# Altium schematic symbol library 2019-05-08_18-30-42.SchLib: 2 symbols
Pins are listed as number, name and electrical type; pins without a type are passive.

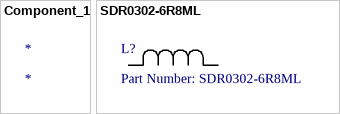
[diagram p0: symbols Component_1 to SDR0302-6R8ML]

## Component_1
designator *

## SDR0302-6R8ML
designator L?, comment Part Number: SDR0302-6R8ML
No Description Available; Vendor: Bourns Electronics; Built_By: EMA_UL_Team; Manufacturer_Part_Number: SDR0302-6R8ML; Copyright: Copyright (C) 2018 Accelerated Designs. All rights reserved; Value: Value
pins: 1, 2